# Altium schematic symbol library 2024-02-03_23-24-29.SchLib: 1 symbol
Pins are listed as number, name and electrical type; pins without a type are passive.

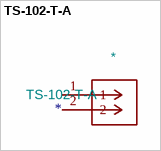
[diagram p0: symbol TS-102-T-A]

## TS-102-T-A
designator *  value TS-102-T-A
ki_fp_filters: CON2_1X2_TU_HTS_SAI; Footprint: CON2_1X2_TU_HTS_SAI; Supplier: TS-102-T-A; ki_keywords: TS-102-T-A
footprint CON2_1X2_TU_HTS_SAI
pins: 1, 2
1 alternate drawing of the same symbol